# EAGLE library part HC06-SMD (library ARTMEGA)
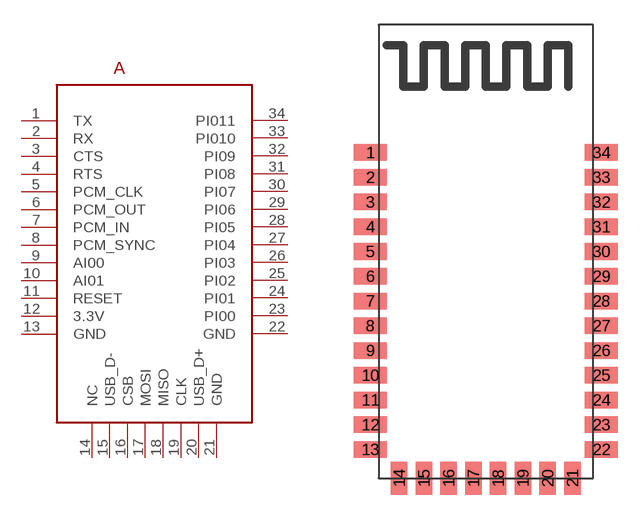
[diagram p2: symbol with the pads of HC06-SMD; footprint HC06-SMD]

Designator prefix A

## HC06-SMD  [HC06-SMD]
1  TX
2  RX
3  CTS
4  RTS
5  PCM_CLK
6  PCM_OUT
7  PCM_IN
8  PCM_SYNC
9  AI00
10  AI01
11  RESET
12  3.3V  pwr
13  GND  pwr
14  NC
15  USB_D-
16  CSB
17  MOSI
18  MISO
19  CLK
20  USB_D+
21  GND  pwr
22  GND  pwr
23  PI00
24  PI01
25  PI02
26  PI03
27  PI04
28  PI05
29  PI06
30  PI07
31  PI08
32  PI09
33  PI010
34  PI011

## Footprint HC06-SMD (pad centres in mm)
smd 2 x 1: 1 -6.5,9; 2 -6.5,7.5; 3 -6.5,6; 4 -6.5,4.5; 5 -6.5,3; 6 -6.5,1.5; 7 -6.5,0; 8 -6.5,-1.5; 9 -6.5,-3; 10 -6.5,-4.5; 11 -6.5,-6; 12 -6.5,-7.5; 13 -6.5,-9; 22 7.5,-9; 23 7.5,-7.5; 24 7.5,-6; 25 7.5,-4.5; 26 7.5,-3; 27 7.5,-1.5; 28 7.5,0; 29 7.5,1.5; 30 7.5,3; 31 7.5,4.5; 32 7.5,6; 33 7.5,7.5; 34 7.5,9
smd 1 x 2: 14 -4.75,-10.75; 15 -3.25,-10.75; 16 -1.75,-10.75; 17 -0.25,-10.75; 18 1.25,-10.75; 19 2.75,-10.75; 20 4.25,-10.75; 21 5.75,-10.75